# Altium schematic symbol library TL16C.SchLib: 3 symbols
Pins are listed as number, name and electrical type; pins without a type are passive.

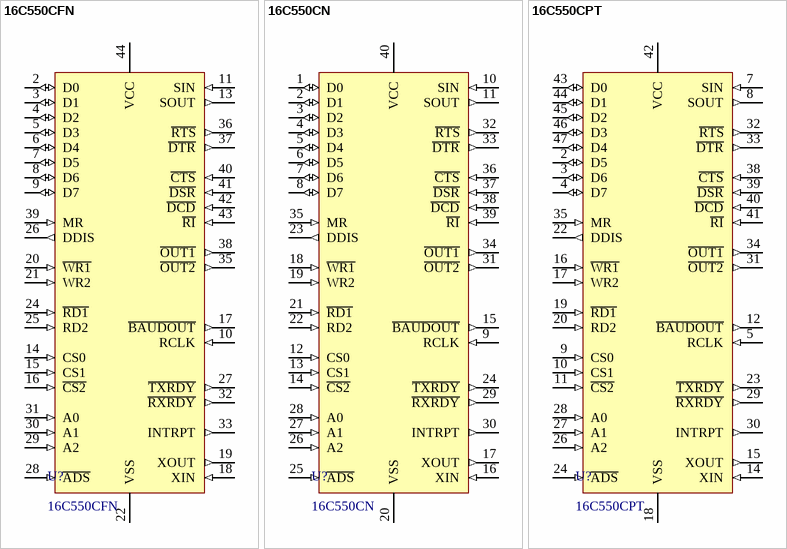
[diagram p0: symbols 16C550CFN to 16C550CPT]

## 16C550CFN
designator U?
Asynchronous Communications Element without Autoflow Control
footprint PLCC44
pins: 2 D0 (io), 3 D1 (io), 4 D2 (io), 5 D3 (io), 6 D4 (io), 7 D5 (io), 8 D6 (io), 9 D7 (io), 10 RCLK (in), 11 SIN (in), 13 SOUT (out), 14 CS0 (in), 15 CS1 (in), 16 ~{CS2} (in), 17 ~{BAUDOUT} (out), 18 XIN (in), 19 XOUT (out), 20 ~{WR1} (in), 21 WR2 (in), 22 VSS (power), 24 ~{RD1} (in), 25 RD2 (in), 26 DDIS (out), 27 ~{TXRDY} (out), 28 ~{ADS} (in), 29 A2 (in), 30 A1 (in), 31 A0 (in), 32 ~{RXRDY} (out), 33 INTRPT (out), 35 ~{OUT2} (out), 36 ~{RTS} (out), 37 ~{DTR} (out), 38 ~{OUT1} (out), 39 MR (in), 40 ~{CTS} (in), 41 ~{DSR} (in), 42 ~{DCD} (in), 43 ~{RI} (in), 44 VCC (power)

## 16C550CN
designator U?
Asynchronous Communications Element without Autoflow Control
footprint PDIP40
pins: 1 D0 (io), 2 D1 (io), 3 D2 (io), 4 D3 (io), 5 D4 (io), 6 D5 (io), 7 D6 (io), 8 D7 (io), 9 RCLK (in), 10 SIN (in), 11 SOUT (out), 12 CS0 (in), 13 CS1 (in), 14 ~{CS2} (in), 15 ~{BAUDOUT} (out), 16 XIN (in), 17 XOUT (out), 18 ~{WR1} (in), 19 WR2 (in), 20 VSS (power), 21 ~{RD1} (in), 22 RD2 (in), 23 DDIS (out), 24 ~{TXRDY} (out), 25 ~{ADS} (in), 26 A2 (in), 27 A1 (in), 28 A0 (in), 29 ~{RXRDY} (out), 30 INTRPT (out), 31 ~{OUT2} (out), 32 ~{RTS} (out), 33 ~{DTR} (out), 34 ~{OUT1} (out), 35 MR (in), 36 ~{CTS} (in), 37 ~{DSR} (in), 38 ~{DCD} (in), 39 ~{RI} (in), 40 VCC (power)

## 16C550CPT
designator U?
Asynchronous Communications Element without Autoflow Control
footprint LQFP48 - TL16C550CPT
pins: 2 D5 (io), 3 D6 (io), 4 D7 (io), 5 RCLK (in), 7 SIN (in), 8 SOUT (out), 9 CS0 (in), 10 CS1 (in), 11 ~{CS2} (in), 12 ~{BAUDOUT} (out), 14 XIN (in), 15 XOUT (out), 16 ~{WR1} (in), 17 WR2 (in), 18 VSS (power), 19 ~{RD1} (in), 20 RD2 (in), 22 DDIS (out), 23 ~{TXRDY} (out), 24 ~{ADS} (in), 26 A2 (in), 27 A1 (in), 28 A0 (in), 29 ~{RXRDY} (out), 30 INTRPT (out), 31 ~{OUT2} (out), 32 ~{RTS} (out), 33 ~{DTR} (out), 34 ~{OUT1} (out), 35 MR (in), 38 ~{CTS} (in), 39 ~{DSR} (in), 40 ~{DCD} (in), 41 ~{RI} (in), 42 VCC (power), 43 D0 (io), 44 D1 (io), 45 D2 (io), 46 D3 (io), 47 D4 (io)